# Altium footprint library CMF1111112.PcbLib: 1 footprints
Each footprint in its own frame and in the unit in brackets; x right, y up, seen from the top. Pads: shape width x height; smd on the part's side, far side on the other; paste and mask are expansions set on the pad; w line width, h text height; cw(c..) or ccw(c..) is an arc to the next point about the centre after c.
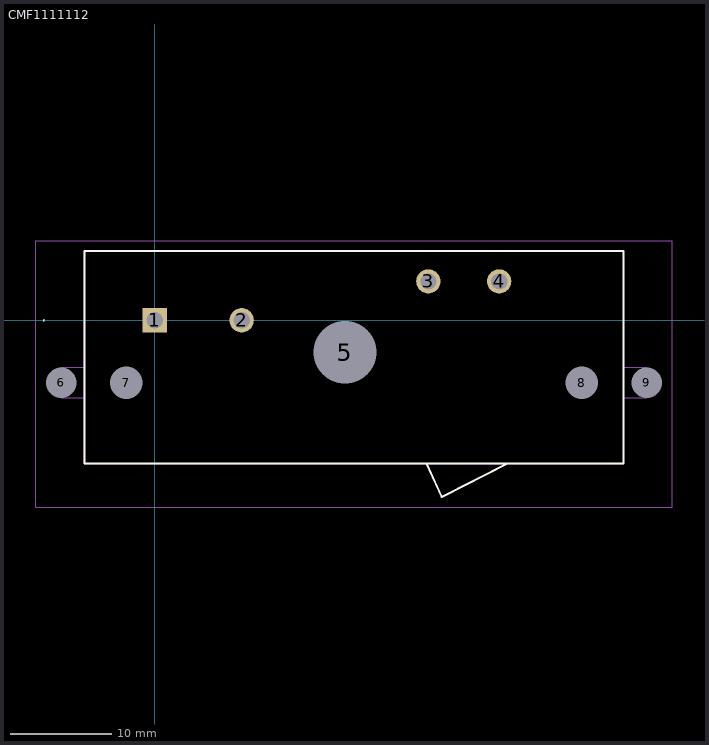
[diagram p0: the footprint, top view; thin cyan lines are the x and y axes]

## CMF1111112 [mm]
pads (9):
  rect 2.4x2.4 hole 1.6: 1(0,0)
  round 2.4 hole 1.6: 2(8.6,0) 3(27.05,3.84) 4(34.05,3.84)
  round 3.1 hole 6.2 unplated: 5(18.8,-3.16)
  round 1.5 hole 3 unplated: 6(-9.25,-6.16) 9(48.65,-6.16)
  round 1.6 hole 3.2 unplated: 7(-2.8,-6.16) 8(42.2,-6.16)
Top Overlay:
  lines w0.1: -11,0 cw(c-10.95,0) -10.9,0 cw(c-10.95,0) -11,0
  lines w0.2: 26.87,-14.16 28.37,-17.46 34.87,-14.16 ; -6.95,-14.16 -6.95,6.84 46.35,6.84 46.35,-14.16 -6.95,-14.16
Mechanical 15:
  lines w0.1: -6.95,-7.66 -9.25,-7.66 -9.25,-4.66 -6.95,-4.66 ; 26.87,-14.16 28.37,-17.46 34.87,-14.16 ; 46.35,-7.66 48.65,-7.66 48.65,-4.66 46.35,-4.66 ; -6.95,-14.16 -6.95,6.84 46.35,6.84 46.35,-14.16 -6.95,-14.16
Mechanical 20:
  lines w0.1: -11.75,-18.46 -11.75,7.84 51.15,7.84 51.15,-18.46 -11.75,-18.46
3D body "CMF1.1111.12.stp": height 18.5, standoff -3.5, extent -9.646,-17.27 48.254,7.03